# Altium schematic symbol library SCH - TRANSISTORS - NEXPERIA NPN SOT883.Schlib: 1 symbol
Pins are listed as number, name and electrical type; pins without a type are passive.

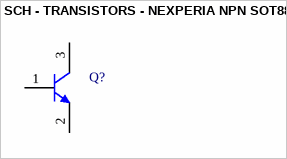
[diagram p0: symbol SCH - TRANSISTORS - NEXPERIA NPN SOT883]

## SCH - TRANSISTORS - NEXPERIA NPN SOT883
designator Q?
footprint SOT883B
pins: 1 B, 2 E, 3 C